# EAGLE library part MOLEX_5034800800 (library myLib)
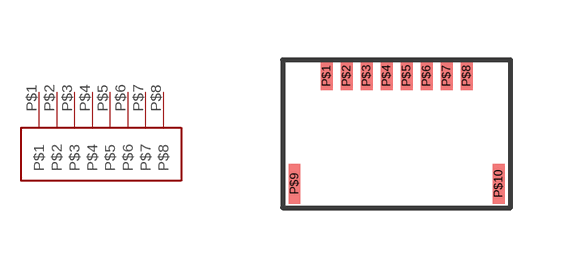
[diagram p9: symbol with the pads of MOLEX_5034800800; footprint MOLEX_5034800800]

Designator prefix -

## MOLEX_5034800800  [MOLEX_5034800800]
P$1  P$1
P$2  P$2
P$3  P$3
P$4  P$4
P$5  P$5
P$6  P$6
P$7  P$7
P$8  P$8

## Footprint MOLEX_5034800800 (pad centres in mm)
smd 0.3 x 0.7: P$1 -1.7,1.3; P$2 -1.2,1.3; P$3 -0.7,1.3; P$4 -0.2,1.3; P$5 0.3,1.3; P$6 0.8,1.3; P$7 1.3,1.3; P$8 1.8,1.3
smd 0.3 x 1: P$9 -2.5,-1.4; P$10 2.6,-1.4